# Altium footprint library SAMTEC-TST-107-01-X-D.PCBLIB: 1 footprints
Each footprint in its own frame and in the unit in brackets; x right, y up, seen from the top. Pads: shape width x height; smd on the part's side, far side on the other; paste and mask are expansions set on the pad; w line width, h text height; cw(c..) or ccw(c..) is an arc to the next point about the centre after c.
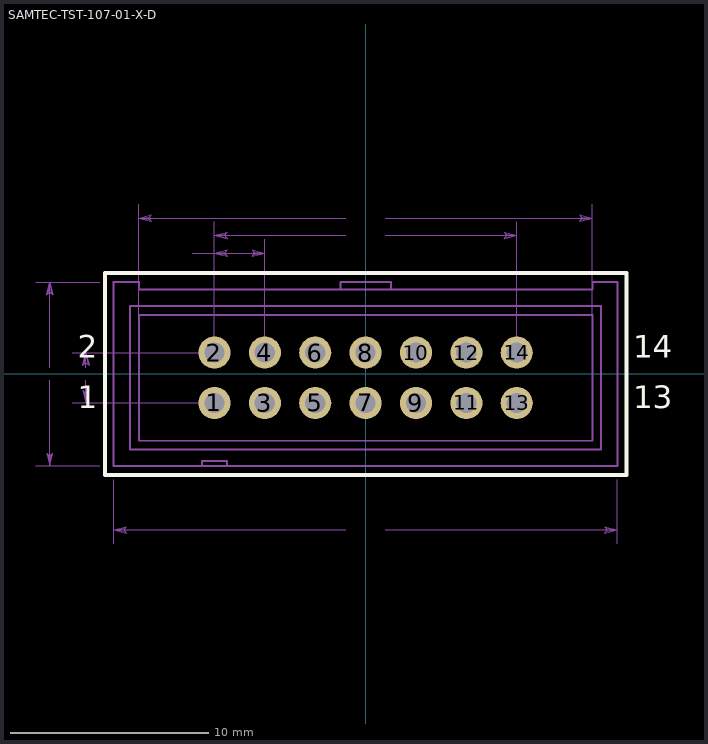
[diagram p0: the footprint, top view; thin cyan lines are the x and y axes]

## SAMTEC-TST-107-01-X-D [mm]
pads (14):
  round 1.62 / inner round 1.524 / far side round 1.62 hole 1.02: 1(-7.62,-1.46) 2(-7.62,1.08) 3(-5.08,-1.46) 4(-5.08,1.08) 5(-2.54,-1.46) 6(-2.54,1.08) 7(0,-1.46) 8(0,1.08) 9(2.54,-1.46) 10(2.54,1.08) 11(5.08,-1.46) 12(5.08,1.08) 13(7.62,-1.46) 14(7.62,1.08)
Top Overlay:
  lines w0.2: -13.15,-5.086 13.15,-5.086 13.15,5.086 -13.15,5.086 -13.15,-5.086
  text "13" at 13.491,-2.096 h1.97
  text "1" at -14.52,-2.096 h1.97
  text "14" at 13.491,0.444 h1.97
  text "2" at -14.52,0.444 h1.97
Top Solder:
  circle w0: c-7.62,-1.46 r0.861
  circle w0: c-7.62,1.08 r0.861
  circle w0: c-5.08,-1.46 r0.861
  circle w0: c-5.08,1.08 r0.861
  circle w0: c-2.54,-1.46 r0.861
  circle w0: c-2.54,1.08 r0.861
  circle w0: c0,-1.46 r0.861
  circle w0: c0,1.08 r0.861
  circle w0: c2.54,-1.46 r0.861
  circle w0: c2.54,1.08 r0.861
  circle w0: c5.08,-1.46 r0.861
  circle w0: c5.08,1.08 r0.861
  circle w0: c7.62,-1.46 r0.861
  circle w0: c7.62,1.08 r0.861
Bottom Solder:
  circle w0: c-7.62,-1.46 r0.861
  circle w0: c-7.62,1.08 r0.861
  circle w0: c-5.08,-1.46 r0.861
  circle w0: c-5.08,1.08 r0.861
  circle w0: c-2.54,-1.46 r0.861
  circle w0: c-2.54,1.08 r0.861
  circle w0: c0,-1.46 r0.861
  circle w0: c0,1.08 r0.861
  circle w0: c2.54,-1.46 r0.861
  circle w0: c2.54,1.08 r0.861
  circle w0: c5.08,-1.46 r0.861
  circle w0: c5.08,1.08 r0.861
  circle w0: c7.62,-1.46 r0.861
  circle w0: c7.62,1.08 r0.861
Assembly Top:
  lines w0.1: -8.255,-4.636 -12.7,-4.636 -12.7,4.636 -11.43,4.636 -11.43,4.254 -6.35,4.254 -3.81,4.254 -1.27,4.254 ; -8.255,-4.636 -6.985,-4.636 ; -8.255,-4.636 -8.255,-4.382 ; -8.255,-4.636 -8.255,-4.382 ; -8.255,-4.382 -6.985,-4.382 ; -8.255,-4.382 -6.985,-4.382 ; -6.985,-4.636 -6.985,-4.382 ; -6.985,-4.636 -6.985,-4.382 ; -6.985,-4.636 -6.35,-4.636 -3.81,-4.636 -1.27,-4.636 1.27,-4.636 3.81,-4.636 6.35,-4.636 12.7,-4.636 12.7,4.636 11.43,4.636 11.43,4.254 6.35,4.254 3.81,4.254 1.27,4.254 ; -1.27,4.254 1.27,4.254 ; -1.27,4.254 -1.27,4.636 1.27,4.636 1.27,4.254 ; 7.302,0.762 7.938,0.762 ; 7.302,0.762 7.302,1.397 7.938,1.397 7.938,0.762 ; 7.302,0.762 7.938,0.762 ; -11.875,-3.81 -11.875,3.429 -6.35,3.429 -3.81,3.429 -1.27,3.429 1.27,3.429 3.81,3.429 6.35,3.429 11.875,3.429 11.875,-3.81 6.35,-3.81 3.81,-3.81 1.27,-3.81 -1.27,-3.81 -3.81,-3.81 -6.35,-3.81 -11.875,-3.81 ; -11.43,-3.366 -6.35,-3.366 -3.81,-3.366 -1.27,-3.366 1.27,-3.366 3.81,-3.366 6.35,-3.366 11.43,-3.366 11.43,2.984 6.35,2.984 3.81,2.984 1.27,2.984 -1.27,2.984 -3.81,2.984 -6.35,2.984 -11.43,2.984 -11.43,-3.366 ; -7.938,-1.778 -7.302,-1.778 -7.302,-1.143 -7.938,-1.143 -7.938,-1.778 ; -7.938,0.762 -7.938,1.397 -7.302,1.397 -7.302,0.762 -7.938,0.762 ; -5.398,-1.778 -5.398,-1.143 -4.762,-1.143 -4.762,-1.778 -5.398,-1.778 ; -5.398,0.762 -5.398,1.397 -4.762,1.397 -4.762,0.762 -5.398,0.762 ; -2.858,-1.778 -2.858,-1.143 -2.222,-1.143 -2.222,-1.778 -2.858,-1.778 ; -2.858,0.762 -2.858,1.397 -2.222,1.397 -2.222,0.762 -2.858,0.762 ; -0.318,-1.778 -0.318,-1.143 0.318,-1.143 0.318,-1.778 -0.318,-1.778 ; -0.318,0.762 -0.318,1.397 0.318,1.397 0.318,0.762 -0.318,0.762 ; 2.222,-1.778 2.222,-1.143 2.858,-1.143 2.858,-1.778 2.222,-1.778 ; 2.222,0.762 2.222,1.397 2.858,1.397 2.858,0.762 2.222,0.762 ; 4.762,-1.778 4.762,-1.143 5.398,-1.143 5.398,-1.778 4.762,-1.778 ; 4.762,0.762 4.762,1.397 5.398,1.397 5.398,0.762 4.762,0.762 ; 7.302,-1.778 7.938,-1.778 7.938,-1.143 7.302,-1.143 7.302,-1.778
  text "1" at -14.52,-2.096 h1.97
  text "2" at -14.52,0.444 h1.97
  text "13" at 13.491,-2.096 h1.97
  text "14" at 13.491,0.444 h1.97
pDim:
  lines w0: -16.627,-4.636 -13.401,-4.636 ; -16.627,4.636 -13.401,4.636 ; -15.926,-0.318 -15.926,-4.636 ; -15.926,0.318 -15.926,4.636 ; -14.798,-1.46 -8.321,-1.46 ; -14.798,1.08 -8.321,1.08 ; -14.097,-0.318 -14.097,-1.46 ; -14.097,0.318 -14.097,1.08 ; -12.7,-8.562 -12.7,-5.337 ; -11.43,0.701 -11.43,8.562 ; -8.738,6.096 -7.62,6.096 ; -7.62,6.797 -7.62,1.781 -7.62,7.686 ; -5.08,1.781 -5.08,6.797 ; -0.991,-7.861 -12.7,-7.861 ; -0.991,6.985 -7.62,6.985 ; -0.991,7.861 -11.43,7.861 ; 0.991,-7.861 12.7,-7.861 ; 0.991,6.985 7.62,6.985 ; 0.991,7.861 11.43,7.861 ; 7.62,1.781 7.62,7.686 ; 11.43,0.701 11.43,8.562 ; 12.7,-8.562 12.7,-5.337 ; -16.085,-4 -15.926,-4.636 ; -16.085,-4 -15.926,-4.128 ; -16.085,-4 -16.005,-4.064 -15.926,-4.636 ; -15.926,-4.636 -15.767,-4 -15.926,-4.128 ; -15.926,-4.636 -15.846,-4.064 -15.926,-4.128 ; -15.926,-4.636 -15.926,-4.128 ; -15.926,4.128 -16.085,4 -15.926,4.636 ; -15.926,4.128 -15.767,4 ; -15.926,4.128 -16.005,4.064 -15.926,4.636 ; -15.926,4.128 -15.926,4.636 ; -15.926,4.636 -15.767,4 ; -15.926,4.636 -15.846,4.064 -15.767,4 ; -14.256,-0.826 -14.097,-1.46 ; -14.256,-0.826 -14.097,-0.952 ; -14.256,-0.826 -14.176,-0.889 -14.097,-1.46 ; -14.097,-1.46 -13.938,-0.826 -14.097,-0.952 ; -14.097,-1.46 -14.018,-0.889 -14.097,-0.952 ; -14.097,-1.46 -14.097,-0.952 ; -14.097,0.572 -14.256,0.444 -14.097,1.08 ; -14.097,0.572 -13.938,0.444 ; -14.097,0.572 -14.176,0.508 -14.097,1.08 ; -14.097,0.572 -14.097,1.08 ; -14.097,1.08 -13.938,0.444 ; -14.097,1.08 -14.018,0.508 -13.938,0.444 ; -12.7,-7.861 -12.065,-7.703 ; -12.7,-7.861 -12.065,-8.02 -12.192,-7.861 ; -12.7,-7.861 -12.128,-7.941 -12.192,-7.861 ; -12.7,-7.861 -12.192,-7.861 ; -12.7,-7.861 -12.128,-7.782 -12.065,-7.703 ; -12.192,-7.861 -12.065,-7.703 ; -11.43,7.861 -10.795,8.02 ; -11.43,7.861 -10.795,7.703 -10.922,7.861 ; -11.43,7.861 -10.858,7.782 -10.922,7.861 ; -11.43,7.861 -10.922,7.861 ; -11.43,7.861 -10.858,7.941 -10.795,8.02 ; -10.922,7.861 -10.795,8.02 ; -7.62,6.096 -6.985,6.255 ; -7.62,6.096 -6.985,5.937 -7.112,6.096 ; -7.62,6.096 -7.048,6.017 -7.112,6.096 ; -7.62,6.096 -7.112,6.096 ; -7.62,6.096 -7.048,6.175 -6.985,6.255 ; -7.62,6.096 -5.08,6.096 ; -7.62,6.985 -6.985,7.144 ; -7.62,6.985 -6.985,6.826 -7.112,6.985 ; -7.62,6.985 -7.048,6.906 -7.112,6.985 ; -7.62,6.985 -7.112,6.985 ; -7.62,6.985 -7.048,7.064 -6.985,7.144 ; -7.112,6.096 -6.985,6.255 ; -7.112,6.985 -6.985,7.144 ; -5.715,5.937 -5.08,6.096 ; -5.715,5.937 -5.588,6.096 ; -5.715,5.937 -5.652,6.017 -5.08,6.096 ; -5.588,6.096 -5.715,6.255 -5.08,6.096 ; -5.588,6.096 -5.652,6.175 -5.08,6.096 ; -5.588,6.096 -5.08,6.096 ; 6.985,6.826 7.62,6.985 ; 6.985,6.826 7.112,6.985 ; 6.985,6.826 7.048,6.906 7.62,6.985 ; 7.112,6.985 6.985,7.144 7.62,6.985 ; 7.112,6.985 7.048,7.064 7.62,6.985 ; 7.112,6.985 7.62,6.985 ; 10.795,7.703 11.43,7.861 ; 10.795,7.703 10.922,7.861 ; 10.795,7.703 10.858,7.782 11.43,7.861 ; 10.922,7.861 10.795,8.02 11.43,7.861 ; 10.922,7.861 10.858,7.941 11.43,7.861 ; 10.922,7.861 11.43,7.861 ; 12.065,-8.02 12.7,-7.861 ; 12.065,-8.02 12.192,-7.861 ; 12.065,-8.02 12.128,-7.941 12.7,-7.861 ; 12.192,-7.861 12.065,-7.703 12.7,-7.861 ; 12.192,-7.861 12.128,-7.782 12.7,-7.861 ; 12.192,-7.861 12.7,-7.861
  text "2.540" at -14.757,-0.127 h0.39
  text "9.271" at -16.586,-0.127 h0.39
  text "2.540" at -10.249,5.969 h0.39
  text "25.400" at -0.8,-7.988 h0.39
  text "15.240" at -0.8,6.858 h0.39
  text "22.860" at -0.8,7.734 h0.39
pCourtYard:
  lines w0.1: -13.15,-5.086 -13.15,5.086 13.15,5.086 13.15,-5.086 -13.15,-5.086
3D body "TST-107-01-L-D.stp": height 8.89, standoff -3.3, extent -12.7,-4.699 12.7,4.572